# Altium footprint library 5050060812.PcbLib: 1 footprints
Each footprint in its own frame and in the unit in brackets; x right, y up, seen from the top. Pads: shape width x height; smd on the part's side, far side on the other; paste and mask are expansions set on the pad; w line width, h text height; cw(c..) or ccw(c..) is an arc to the next point about the centre after c.
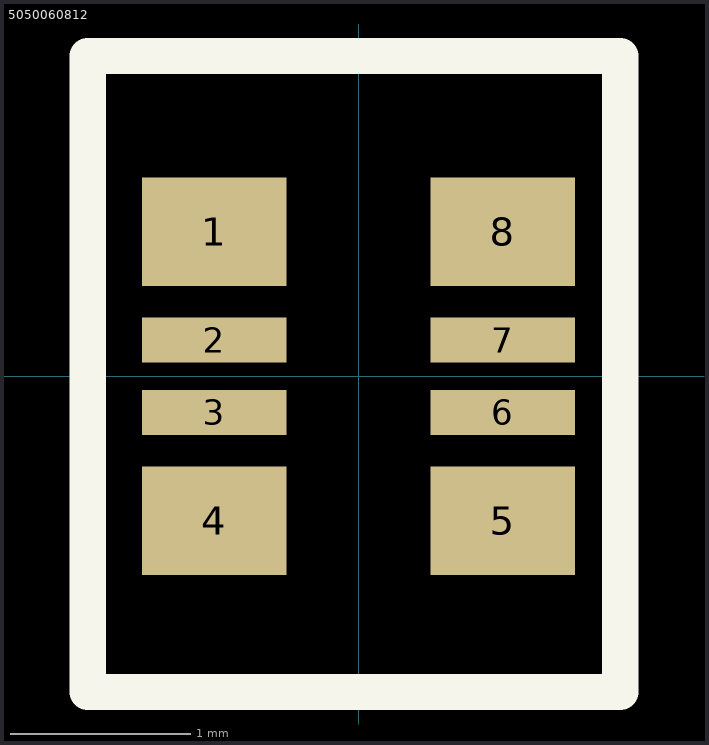
[diagram p0: the footprint, top view; thin cyan lines are the x and y axes]

## 5050060812 [mm] "5050060812"
pads (8):
  rect 0.8x0.6 smd: 1(-0.8,0.8) 4(-0.8,-0.8) 5(0.8,-0.8) 8(0.8,0.8)
  rect 0.8x0.25 smd: 2(-0.8,0.2) 3(-0.8,-0.2) 6(0.8,-0.2) 7(0.8,0.2)
Top Overlay:
  lines w0.2: -1.5,-1.75 -0.4,-1.75 1.45,-1.75 1.45,1.775 -1.5,1.775 -1.5,0.6 -1.5,-1.75
Top Assembly:
  lines w0.1: -1.5,-1.75 -1.5,-0.1 -1.5,1.775 1.45,1.775 1.45,-1.75 -1.5,-1.75
  text "'.Designator'" at -0.625,-0.075 h0.7
3D body "5050060812.step": height 0.61, standoff -0.02, extent -1.16,-1.65 1.16,1.65